# EAGLE library part TLV75101PDSQR (library MF_IC_Power)
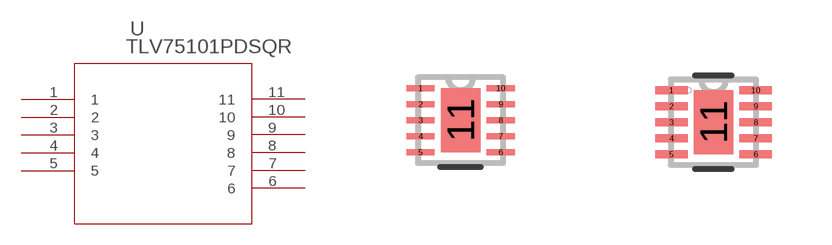
[diagram p0: symbol with the pads of SON_1PDSQR_TEX; footprints SON_1PDSQR_TEX, SON_1PDSQR_TEX-M]

Designator prefix U

## TLV75101PDSQR (COPYRIGHT: Copyright (C) 2025 Ultra Librarian. All rights reserved.; MANUFACTURER_PART_NUMBER: TLV75101PDSQR; MFR_NAME: Texas Instruments)  [SON_1PDSQR_TEX]
1  1  pas
2  2  pas
3  3  pas
4  4  pas
5  5  pas
6  6  pas
7  7  pas
8  8  pas
9  9  pas
10  10  pas
11  11  pas

## TLV75101PDSQRSON_1PDSQR_TEX-M (COPYRIGHT: Copyright (C) 2025 Ultra Librarian. All rights reserved.; MANUFACTURER_PART_NUMBER: TLV75101PDSQR; MFR_NAME: Texas Instruments)  [SON_1PDSQR_TEX-M]
Pads as for SON_1PDSQR_TEX

## TLV75101PDSQRSON_1PDSQR_TEX-L (COPYRIGHT: Copyright (C) 2025 Ultra Librarian. All rights reserved.; MANUFACTURER_PART_NUMBER: TLV75101PDSQR; MFR_NAME: Texas Instruments)  [SON_1PDSQR_TEX-L]
Pads as for SON_1PDSQR_TEX

## Footprint SON_1PDSQR_TEX (pad centres in mm)
smd 0.711 x 0.152: 1 -1.003,0.8; 2 -1.003,0.4; 3 -1.003,0; 4 -1.003,-0.4; 5 -1.003,-0.8; 6 1.003,-0.8; 7 1.003,-0.4; 8 1.003,0; 9 1.003,0.4; 10 1.003,0.8
smd 0.991 x 1.6: 11 0,0

## Footprint SON_1PDSQR_TEX-M (pad centres in mm)
smd 0.813 x 0.203: 1 -1.054,0.8; 2 -1.054,0.4; 3 -1.054,0; 4 -1.054,-0.4; 5 -1.054,-0.8; 6 1.054,-0.8; 7 1.054,-0.4; 8 1.054,0; 9 1.054,0.4; 10 1.054,0.8
smd 0.991 x 1.6: 11 0,0

## Footprint SON_1PDSQR_TEX-L (pad centres in mm)
smd 0.61 x 0.203: 1 -0.953,0.8; 2 -0.953,0.4; 3 -0.953,0; 4 -0.953,-0.4; 5 -0.953,-0.8; 6 0.953,-0.8; 7 0.953,-0.4; 8 0.953,0; 9 0.953,0.4; 10 0.953,0.8
smd 0.991 x 1.6: 11 0,0